# EAGLE library part MICROCHIP_MCP23018-E-MJ (library MCP23018-EMJ)
PR-BUSIC-MCP23018-25
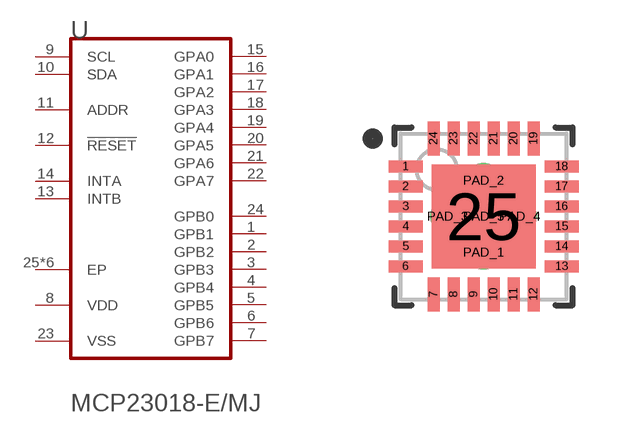
[diagram p0: symbol with the pads of MICROCHIP_MCP23018-E-MJ_0; footprint MICROCHIP_MCP23018-E-MJ_0]

Designator prefix U

## MICROCHIP_MCP23018-E-MJMICROCHIP_MCP23018-E-MJ_0_0 (CIIVA_IDS: 1159143; COMPONENT_LINK_1_DESCRIPTION: Manufacturer URL; COMPONENT_LINK_1_URL: http://www.microchip.com/; COMPONENT_LINK_3_DESCRIPTION: Package Specification; COMPONENT_LINK_3_URL: http://www.microchip.com/stellent/groups/techpub_sg/documents/packagingspec/en012702.pdf; DATASHEET: http://ww1.microchip.com/downloads/en/DeviceDoc/22103a.pdf; DATASHEET_VERSION: revA, Sep-2008; FOOTPRINT_VARIANT_NAME_0: Manufacturer Recommended; IMPORTED: yes; IMPORTED_FROM: vault; IMPORT_TS: 1521847832; MF: Microchip; MPN: MCP23018-E/MJ; PACKAGE: QFN-MJ24; PACKAGE_DESCRIPTION: 24-Lead Plastic Quad Flat, No Lead Package (MJ) - 4x4x0.9mm Body [QFN]; PACKAGE_VERSION: revBB, Aug-2009; PREFIX: U; RELEASE_DATE: 1331939238; VAULT_GUID: 7DB33FF9-D650-4A52-A373-4DE5CDAE4D49; VAULT_REVISION: C52AF916-C5CF-4FF9-A1AD-A335BC79AF5A)  [MICROCHIP_MCP23018-E-MJ_0]
1  GPB1
2  GPB2
3  GPB3
4  GPB4
5  GPB5
6  GPB6
7  GPB7
8  VDD  pwr
9  SCL  in
10  SDA
11  ADDR  in
12  !RESET!  in
13  INTB  oc
14  INTA  oc
15  GPA0
16  GPA1
17  GPA2
18  GPA3
19  GPA4
20  GPA5
21  GPA6
22  GPA7
23  VSS  pwr
24  GPB0
25  EP  pas
PAD_1  EP  pas
PAD_2  EP  pas
PAD_3  EP  pas
PAD_4  EP  pas
PAD_5  EP  pas

## Footprint MICROCHIP_MCP23018-E-MJ_0 (pad centres in mm)
PR-BUSIC-MCP23018-25
smd 0.85 x 0.3: 1 -1.95,1.25; 2 -1.95,0.75; 3 -1.95,0.25; 4 -1.95,-0.25; 5 -1.95,-0.75; 6 -1.95,-1.25; 13 1.95,-1.25; 14 1.95,-0.75; 15 1.95,-0.25; 16 1.95,0.25; 17 1.95,0.75; 18 1.95,1.25
smd 0.3 x 0.85: 7 -1.25,-1.95; 8 -0.75,-1.95; 9 -0.25,-1.95; 10 0.25,-1.95; 11 0.75,-1.95; 12 1.25,-1.95; 19 1.25,1.95; 20 0.75,1.95; 21 0.25,1.95; 22 -0.25,1.95; 23 -0.75,1.95; 24 -1.25,1.95
smd 2.6 x 2.6: 25 0,0
drill 0.35 pad 0.525: PAD_1 0,-0.9; PAD_2 0,0.9; PAD_3 -0.9,0; PAD_4 0.9,0; PAD_5 0,0